# EAGLE library part TSW-107-02-S-Q (library con-samtec)
THROUGH-HOLE .025" SQ POST HEADER Source: Samtec TSW.pdf
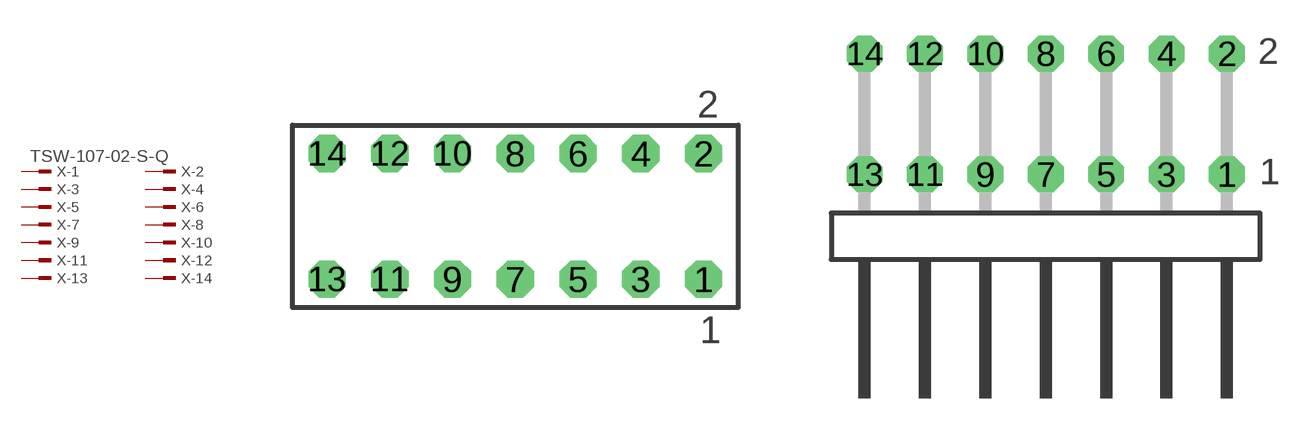
[diagram p283: symbol with the pads of TSW-107-02-S-Q; footprints TSW-107-02-S-Q, TSW-107-02-S-Q-RA]

Designator prefix X; gates -1=MPINV -2=MPIN -3=MPIN -4=MPIN -5=MPIN -6=MPIN -7=MPIN -8=MPIN -9=MPIN -10=MPIN -11=MPIN -12=MPIN -13=MPIN -14=MPIN

## TSW-107-02-S-Q (OC_FARNELL: unknown; OC_NEWARK: unknown)  [TSW-107-02-S-Q]
1  -1:1  pas
2  -2:1  pas
3  -3:1  pas
4  -4:1  pas
5  -5:1  pas
6  -6:1  pas
7  -7:1  pas
8  -8:1  pas
9  -9:1  pas
10  -10:1  pas
11  -11:1  pas
12  -12:1  pas
13  -13:1  pas
14  -14:1  pas

## TSW-107-02-S-Q-RA (OC_FARNELL: unknown; OC_NEWARK: unknown)  [TSW-107-02-S-Q-RA]
Pads as for TSW-107-02-S-Q

## Footprint TSW-107-02-S-Q (pad centres in mm)
THROUGH-HOLE .025" SQ POST HEADER Source: Samtec TSW.pdf
drill 1 pad 1.5 octagon: 1 7.62,-2.54; 2 7.62,2.54; 3 5.08,-2.54; 4 5.08,2.54; 5 2.54,-2.54; 6 2.54,2.54; 7 0,-2.54; 8 0,2.54; 9 -2.54,-2.54; 10 -2.54,2.54; 11 -5.08,-2.54; 12 -5.08,2.54; 13 -7.62,-2.54; 14 -7.62,2.54

## Footprint TSW-107-02-S-Q-RA (pad centres in mm)
THROUGH-HOLE .025" SQ POST HEADER Source: Samtec TSW.pdf
drill 1 pad 1.5 octagon: 1 7.62,1.524; 2 7.62,6.604; 3 5.08,1.524; 4 5.08,6.604; 5 2.54,1.524; 6 2.54,6.604; 7 0,1.524; 8 0,6.604; 9 -2.54,1.524; 10 -2.54,6.604; 11 -5.08,1.524; 12 -5.08,6.604; 13 -7.62,1.524; 14 -7.62,6.604